# EAGLE library part MCP3208 (library 000_ICS_2021)
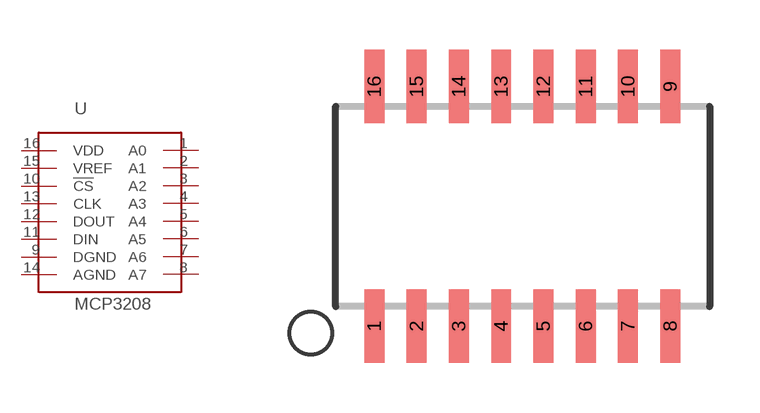
[diagram p14: symbol with the pads of SOP16; footprint SOP16]

Designator prefix U

## MCP3208SOP16 (ICS: ICS-1072; VALUE: MCP3208-CI/SL)  [SOP16]
1  A0
2  A1
3  A2
4  A3
5  A4
6  A5
7  A6
8  A7
9  DGND
10  !CS
11  DIN
12  DOUT
13  CLK
14  AGND
15  VREF
16  VDD

## Footprint SOP16 (pad centres in mm)
SMALL OUTLINE PACKAGE
smd 0.6 x 2.2: 1 -4.445,-3.6; 2 -3.175,-3.6; 3 -1.905,-3.6; 4 -0.635,-3.6; 5 0.635,-3.6; 6 1.905,-3.6; 7 3.175,-3.6; 8 4.445,-3.6; 9 4.445,3.6; 10 3.175,3.6; 11 1.905,3.6; 12 0.635,3.6; 13 -0.635,3.6; 14 -1.905,3.6; 15 -3.175,3.6; 16 -4.445,3.6